# EAGLE library part PIC32MX250F128-D (library PonLib)
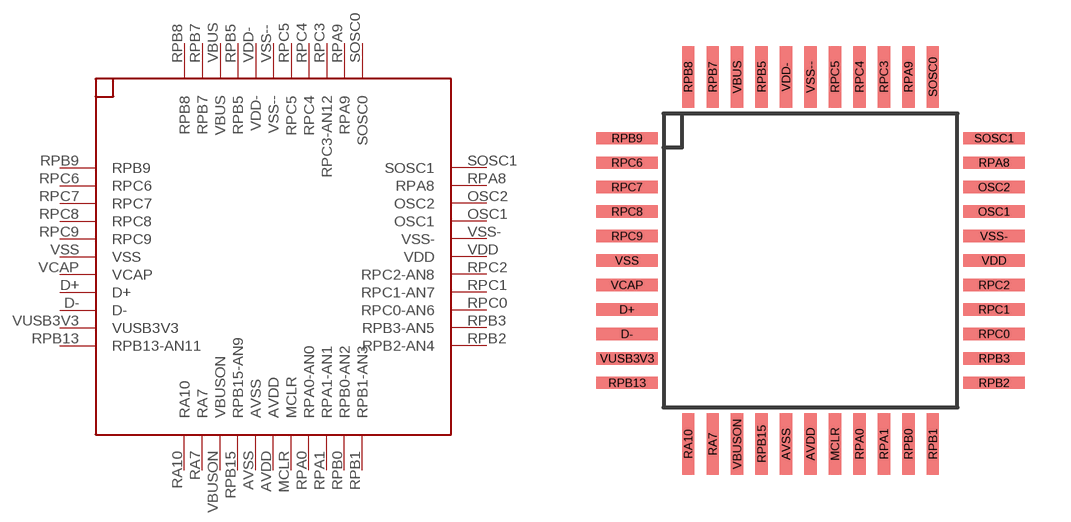
[diagram p5: symbol with the pads of TQFP-44-0.8-MICROCHIP; footprint TQFP-44-0.8-MICROCHIP]

Designator prefix -

## PIC32MX250F128-D  [TQFP-44-0.8-MICROCHIP]
AVDD  AVDD
AVSS  AVSS
D+  D+
D-  D-
MCLR  MCLR
OSC1  OSC1
OSC2  OSC2
RA7  RA7
RA10  RA10
RPA0  RPA0-AN0
RPA1  RPA1-AN1
RPA8  RPA8
RPA9  RPA9
RPB0  RPB0-AN2
RPB1  RPB1-AN3
RPB2  RPB2-AN4
RPB3  RPB3-AN5
RPB5  RPB5
RPB7  RPB7
RPB8  RPB8
RPB9  RPB9
RPB13  RPB13-AN11
RPB15  RPB15-AN9
RPC0  RPC0-AN6
RPC1  RPC1-AN7
RPC2  RPC2-AN8
RPC3  RPC3-AN12
RPC4  RPC4
RPC5  RPC5
RPC6  RPC6
RPC7  RPC7
RPC8  RPC8
RPC9  RPC9
SOSC0  SOSC0
SOSC1  SOSC1
VBUS  VBUS
VBUSON  VBUSON
VCAP  VCAP
VDD  VDD
VDD-  VDD-
VSS  VSS
VSS-  VSS-
VSS--  VSS--
VUSB3V3  VUSB3V3

## Footprint TQFP-44-0.8-MICROCHIP (pad centres in mm)
smd 0.4 x 2: AVDD 0,-6; AVSS -0.8,-6; MCLR 0.8,-6; RA7 -3.2,-6; RA10 -4,-6; RPA0 1.6,-6; RPA1 2.4,-6; RPA9 3.2,6; RPB0 3.2,-6; RPB1 4,-6; RPB5 -1.6,6; RPB7 -3.2,6; RPB8 -4,6; RPB15 -1.6,-6; RPC3 2.4,6; RPC4 1.6,6; RPC5 0.8,6; SOSC0 4,6; VBUS -2.4,6; VBUSON -2.4,-6; VDD- -0.8,6; VSS-- 0,6
smd 2 x 0.4: D+ -6,-1.6; D- -6,-2.4; OSC1 6,1.6; OSC2 6,2.4; RPA8 6,3.2; RPB2 6,-4; RPB3 6,-3.2; RPB9 -6,4; RPB13 -6,-4; RPC0 6,-2.4; RPC1 6,-1.6; RPC2 6,-0.8; RPC6 -6,3.2; RPC7 -6,2.4; RPC8 -6,1.6; RPC9 -6,0.8; SOSC1 6,4; VCAP -6,-0.8; VDD 6,0; VSS -6,0; VSS- 6,0.8; VUSB3V3 -6,-3.2